# EAGLE library part 61300621821 (library Board-to-Board (rev18a))
WR-PHD 2.54mm Dual Socket Header, 6 Pins =>Code : Con_BTB_SHD_2.54_2_613000621821 <http://katalog.we-online.de/media/images/eican/Con_BTB_SHD_2.54_2_6130xx21821_pf2.jpg> Details see: http://katalog.we-online.de/en/em/613_0xx_218_21 Created 2014-05-29, Karrer Zheng 2014 (C) Würth Elektronik
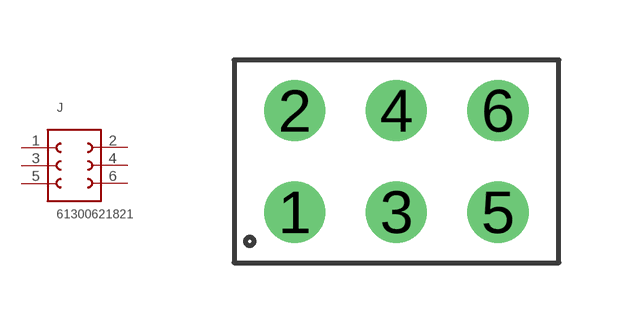
[diagram p106: symbol with the pads of 61300621821; footprint 61300621821]

Designator prefix J

## 61300621821  [61300621821]
1  1  pas
2  6  pas
3  2  pas
4  5  pas
5  3  pas
6  4  pas

## Footprint 61300621821 (pad centres in mm)
WR-PHD 2.54mm Dual Socket Header, 6 Pins
drill 1.02: 1 -2.54,-1.27; 2 -2.54,1.27; 3 0,-1.27; 4 0,1.27; 5 2.54,-1.27; 6 2.54,1.27